# Altium footprint library CONN_TERM_BLK_2P_2.54MM_TH.PcbLib: 1 footprints
Each footprint in its own frame and in the unit in brackets; x right, y up, seen from the top. Pads: shape width x height; smd on the part's side, far side on the other; paste and mask are expansions set on the pad; w line width, h text height; cw(c..) or ccw(c..) is an arc to the next point about the centre after c.
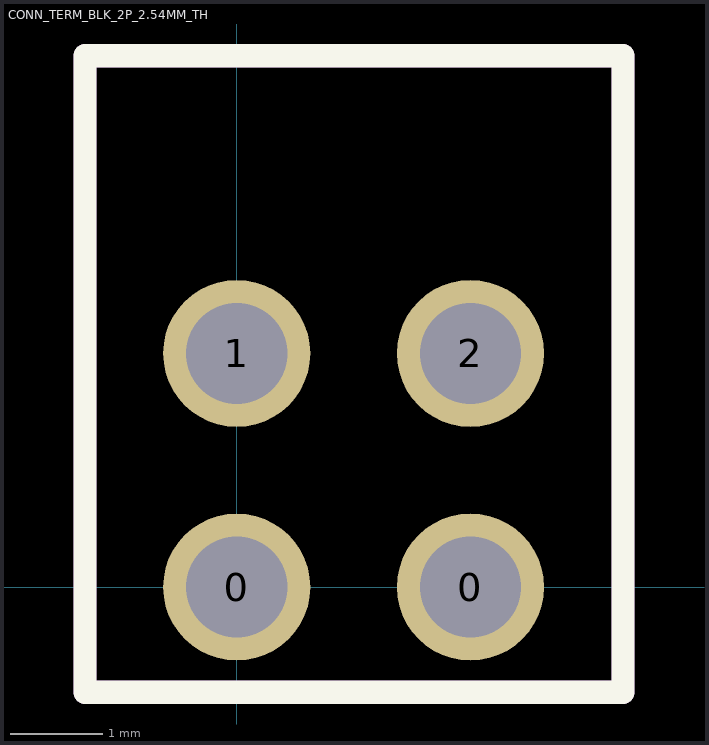
[diagram p0: the footprint, top view; thin cyan lines are the x and y axes]

## CONN_TERM_BLK_2P_2.54MM_TH [mm]
pads (4):
  round 1.6 hole 1.1: 0(0,0) 0(2.54,0) 1(0,2.54) 2(2.54,2.54)
Top Overlay:
  lines w0.254: -1.65,-1.143 4.2,-1.143 4.2,5.775 -1.65,5.775 -1.65,-1.143
Mechanical 1:
  lines w0.254: -1.65,-1.143 4.2,-1.143 4.2,5.775 -1.65,5.775 -1.65,-1.143
  text ".designator" at 0.133,3.825 h0.5
3D body "CONN_TERM_BLK_2P_2.54MM_TH.step": height 8.5, standoff -3.5, extent -1.495,-0.575 4.045,5.625